# Altium footprint library GT-USB-9010A.PcbLib: 1 footprints
Each footprint in its own frame and in the unit in brackets; x right, y up, seen from the top. Pads: shape width x height; smd on the part's side, far side on the other; paste and mask are expansions set on the pad; w line width, h text height; cw(c..) or ccw(c..) is an arc to the next point about the centre after c.
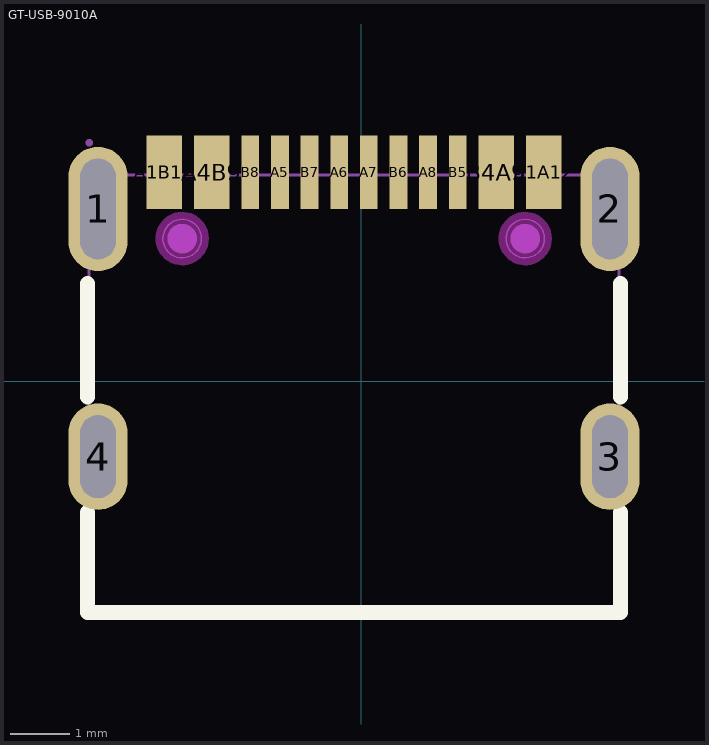
[diagram p0: the footprint, top view; thin cyan lines are the x and y axes]

## GT-USB-9010A [mm]
pads (16):
  oval 1x2.1 hole 0.6 slot 1.7 at 90 deg paste-2539.97 mask+0.05: 1(-4.445,2.91) 2(4.195,2.91)
  oval 1x1.8 hole 0.6 slot 1.4 at 90 deg paste-2539.97 mask+0.05: 3(4.195,-1.27) 4(-4.445,-1.27)
  rect 0.6x1.24 smd paste-100 mask+0.05: A1B12(-3.325,3.53) A4B9(-2.525,3.53) B1A12(3.075,3.53) B4A9(2.275,3.53)
  rect 0.3x1.24 smd paste-100 mask+0.05: A5(-1.375,3.53) A6(-0.375,3.53) A7(0.125,3.53) A8(1.125,3.53) B5(1.625,3.53) B6(0.625,3.53) B7(-0.875,3.53) B8(-1.875,3.53)
Top Overlay:
  lines w0.254: -4.625,-2.209 -4.625,-3.9 4.375,-3.9 4.375,-2.209 ; -4.625,-0.261 -4.625,1.651 ; 4.375,-0.261 4.375,1.651
Top Paste:
  drawing of 16 lines, arcs and shapes, not listed
Keep-Out Layer:
  board cut-out: 3.09,2.41 3.089,2.474 3.039,2.592 2.947,2.681 2.829,2.73 2.701,2.73 2.583,2.681 2.492,2.592 2.441,2.474 2.44,2.41 2.441,2.346 2.492,2.229 2.583,2.139 2.701,2.091 2.829,2.091 2.948,2.139 3.039,2.229 3.089,2.346 3.09,2.41
  board cut-out: -2.7,2.41 -2.701,2.474 -2.751,2.592 -2.842,2.681 -2.961,2.73 -3.089,2.73 -3.207,2.681 -3.298,2.592 -3.349,2.474 -3.35,2.41 -3.349,2.346 -3.298,2.229 -3.207,2.139 -3.089,2.091 -2.961,2.091 -2.842,2.139 -2.751,2.229 -2.701,2.346 -2.7,2.41
Mechanical 1:
  circle w0.025: c2.765,2.41 r0.325
  circle w0.025: c-3.025,2.41 r0.325
Mechanical 6:
  circle w0.25: c-3.025,2.41 r0.125
  circle w0.25: c2.765,2.41 r0.125
Mechanical 15:
  region: -1.985,4.03 -1.765,4.03 -1.765,3.23 -1.985,3.23
  region: -1.485,4.03 -1.265,4.03 -1.265,3.23 -1.485,3.23
  region: -0.985,4.03 -0.765,4.03 -0.765,3.23 -0.985,3.23
  region: -0.485,4.03 -0.265,4.03 -0.265,3.23 -0.485,3.23
  region: 0.015,4.03 0.235,4.03 0.235,3.23 0.015,3.23
  region: 0.515,4.03 0.735,4.03 0.735,3.23 0.515,3.23
  region: 1.015,4.03 1.235,4.03 1.235,3.23 1.015,3.23
  region: 1.515,4.03 1.735,4.03 1.735,3.23 1.515,3.23
  region: -3.545,4.03 -3.105,4.03 -3.105,3.23 -3.545,3.23
  region: -2.745,4.03 -2.305,4.03 -2.305,3.23 -2.745,3.23
  region: 2.055,4.03 2.495,4.03 2.495,3.23 2.055,3.23
  region: 2.855,4.03 3.295,4.03 3.295,3.23 2.855,3.23
  region: -4.595,3.48 -4.245,3.48 -4.245,2.38 -4.595,2.38
  region: 3.995,3.48 4.345,3.48 4.345,2.38 3.995,2.38
  region: -4.595,-0.87 -4.245,-0.87 -4.245,-1.67 -4.595,-1.67
  region: 3.995,-0.87 4.345,-0.87 4.345,-1.67 3.995,-1.67
  region: -4.535,4.03 -4.535,4.055 -4.57,4.09 -4.62,4.09 -4.655,4.055 -4.655,4.03 -4.655,4.005 -4.62,3.97 -4.57,3.97 -4.535,4.005 -4.535,4.03
  lines w0.051: -4.595,-3.87 4.345,-3.87 4.345,3.48 -4.595,3.48 -4.595,-3.87
Multi-Layer keep-out:
  circle w0.254: c2.765,2.41 r0.325
  circle w0.254: c-3.025,2.41 r0.325